# EAGLE library part ATTINY45- (library ic-ATMEL)
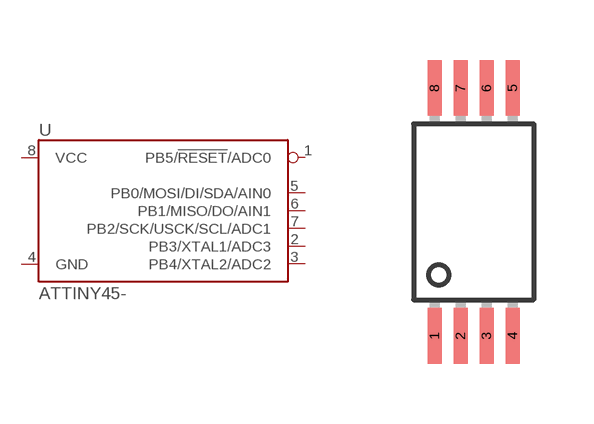
[diagram p18: symbol with the pads of TSSOP8; footprint TSSOP8]

Designator prefix U

## ATTINY45-XU  [TSSOP8]
1  PB5/!RESET!/ADC0
2  PB3/XTAL1/ADC3
3  PB4/XTAL2/ADC2
4  GND
5  PB0/MOSI/DI/SDA/AIN0
6  PB1/MISO/DO/AIN1
7  PB2/SCK/USCK/SCL/ADC1
8  VCC

## Footprint TSSOP8 (pad centres in mm)
smd 0.35 x 1.4: 1 -0.975,-3.1; 2 -0.325,-3.1; 3 0.325,-3.1; 4 0.975,-3.1; 5 0.975,3.1; 6 0.325,3.1; 7 -0.325,3.1; 8 -0.975,3.1